# Altium integrated library CAN_ncv7342.IntLib: 1 symbol
Pins are listed as number, name and electrical type; pins without a type are passive.

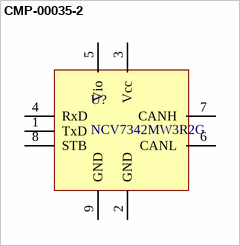
[diagram p0: symbol CMP-00035-2]

## CMP-00035-2
designator U?, comment NCV7342MW3R2G
High Speed Low Power CAN Transceiver; Lead Free: Lead Free
footprint DFN8-3x3mm
pins: 1 TxD, 2 GND, 3 Vcc, 4 RxD, 5 Vio, 6 CANL, 7 CANH, 8 STB, 9 GND